# Altium footprint library Wireless_WiFi_ESP32_SMD.PcbLib: 1 footprints
Each footprint in its own frame and in the unit in brackets; x right, y up, seen from the top. Pads: shape width x height; smd on the part's side, far side on the other; paste and mask are expansions set on the pad; w line width, h text height; cw(c..) or ccw(c..) is an arc to the next point about the centre after c.
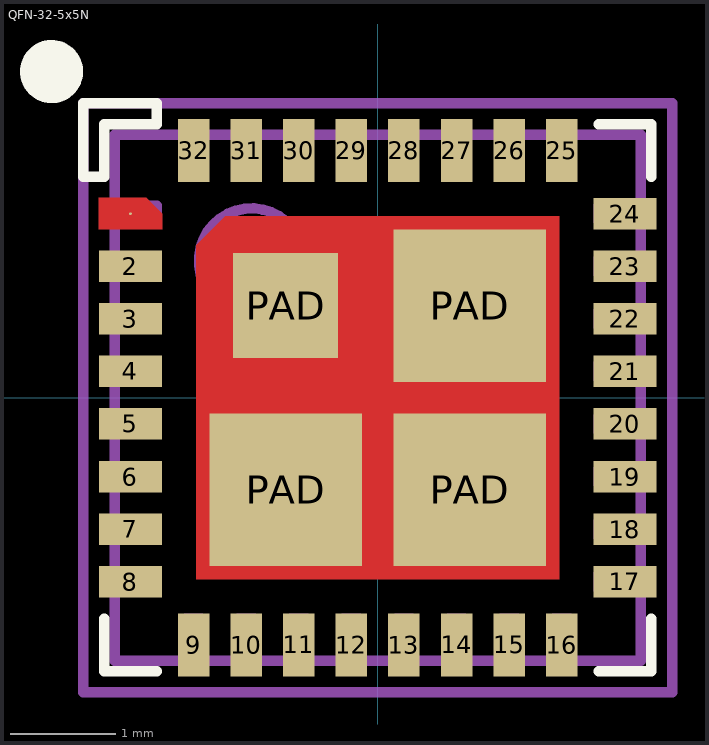
[diagram p0: the footprint, top view; thin cyan lines are the x and y axes]

## QFN-32-5x5N [mm] "UQFN, 32-Leads, Body 5x5mm, Pitch 0.5mm, IPC High Density"
height 0.85
pads (36):
  round 0.025 smd: 1(-2.35,1.75)
  rect 0.6x0.3 smd: 2(-2.35,1.25) 3(-2.35,0.75) 4(-2.35,0.25) 5(-2.35,-0.25) 6(-2.35,-0.75) 7(-2.35,-1.25) 8(-2.35,-1.75) 17(2.35,-1.75) 18(2.35,-1.25) 19(2.35,-0.75) 20(2.35,-0.25) 21(2.35,0.25) 22(2.35,0.75) 23(2.35,1.25) 24(2.35,1.75)
  rect 0.3x0.6 smd: 9(-1.75,-2.35) 10(-1.25,-2.35) 11(-0.75,-2.35) 12(-0.25,-2.35) 13(0.25,-2.35) 14(0.75,-2.35) 15(1.25,-2.35) 16(1.75,-2.35) 25(1.75,2.35) 26(1.25,2.35) 27(0.75,2.35) 28(0.25,2.35) 29(-0.25,2.35) 30(-0.75,2.35) 31(-1.25,2.35) 32(-1.75,2.35)
  rect 1.45x1.45 smd: PAD(-0.875,-0.875) PAD(0.875,-0.875) PAD(0.875,0.875)
  rect 1x1 smd: PAD(-0.875,0.875)
Top Layer:
  region: -0.15,0.15 -0.15,1.6 -1.35,1.6 -1.6,1.35 -1.6,0.15
  region: 1.725,1.725 -1.45,1.725 -1.725,1.45 -1.725,-1.725 1.725,-1.725
  region: -2.05,1.75 -2.05,1.6 -2.65,1.6 -2.65,1.9 -2.2,1.9
Top Overlay:
  circle w0.3: c-3.1,3.1 r0.15
  lines w0.1: -2.6,-2.1 -2.6,-2.6 -2.1,-2.6 ; 2.1,-2.6 2.6,-2.6 2.6,-2.1 ; 2.1,2.6 2.6,2.6 2.6,2.1 ; -2.8,2.1 -2.6,2.1 -2.6,2.6 -2.1,2.6 -2.1,2.8 -2.8,2.8 -2.8,2.1
Top Package:
  circle w0.1: c-1.2,1.3 r0.5
  lines w0.1: -2.45,-1.825 -2.1,-1.825 -2.1,-1.675 -2.45,-1.675 ; -2.45,-1.325 -2.1,-1.325 -2.1,-1.175 -2.45,-1.175 ; -2.45,-0.825 -2.1,-0.825 -2.1,-0.675 -2.45,-0.675 ; -2.45,-0.325 -2.1,-0.325 -2.1,-0.175 -2.45,-0.175 ; -2.45,0.175 -2.1,0.175 -2.1,0.325 -2.45,0.325 ; -2.45,0.675 -2.1,0.675 -2.1,0.825 -2.45,0.825 ; -2.45,1.175 -2.1,1.175 -2.1,1.325 -2.45,1.325 ; -2.45,1.675 -2.1,1.675 -2.1,1.825 -2.45,1.825 ; -1.825,-2.45 -1.825,-2.1 -1.675,-2.1 -1.675,-2.45 ; -1.825,2.45 -1.825,2.1 -1.675,2.1 -1.675,2.45 ; -1.325,-2.45 -1.325,-2.1 -1.175,-2.1 -1.175,-2.45 ; -1.325,2.45 -1.325,2.1 -1.175,2.1 -1.175,2.45 ; -0.825,-2.45 -0.825,-2.1 -0.675,-2.1 -0.675,-2.45 ; -0.825,2.45 -0.825,2.1 -0.675,2.1 -0.675,2.45 ; -0.325,-2.45 -0.325,-2.1 -0.175,-2.1 -0.175,-2.45 ; -0.325,2.45 -0.325,2.1 -0.175,2.1 -0.175,2.45 ; 0.175,-2.45 0.175,-2.1 0.325,-2.1 0.325,-2.45 ; 0.175,2.45 0.175,2.1 0.325,2.1 0.325,2.45 ; 0.675,-2.45 0.675,-2.1 0.825,-2.1 0.825,-2.45 ; 0.675,2.45 0.675,2.1 0.825,2.1 0.825,2.45 ; 1.175,-2.45 1.175,-2.1 1.325,-2.1 1.325,-2.45 ; 1.175,2.45 1.175,2.1 1.325,2.1 1.325,2.45 ; 1.675,-2.45 1.675,-2.1 1.825,-2.1 1.825,-2.45 ; 1.675,2.45 1.675,2.1 1.825,2.1 1.825,2.45 ; 2.45,-1.825 2.1,-1.825 2.1,-1.675 2.45,-1.675 ; 2.45,-1.325 2.1,-1.325 2.1,-1.175 2.45,-1.175 ; 2.45,-0.825 2.1,-0.825 2.1,-0.675 2.45,-0.675 ; 2.45,-0.325 2.1,-0.325 2.1,-0.175 2.45,-0.175 ; 2.45,0.175 2.1,0.175 2.1,0.325 2.45,0.325 ; 2.45,0.675 2.1,0.675 2.1,0.825 2.45,0.825 ; 2.45,1.175 2.1,1.175 2.1,1.325 2.45,1.325 ; 2.45,1.675 2.1,1.675 2.1,1.825 2.45,1.825 ; -2.5,-2.5 2.5,-2.5 2.5,2.5 -2.5,2.5 -2.5,-2.5
Top Comment:
  text ".Comment" at -2.128,-0.474 h1.5
Top Designator:
  text ".Designator" at -3.438,-0.451 h2
Top Border:
  lines w0.1: -0.5,0 0.5,0 ; 0,-0.5 0,0.5 ; -2.8,-2.8 2.8,-2.8 2.8,2.8 -2.8,2.8 -2.8,-2.8
3D body "UQFN-32(5x5).step": height 0.9, standoff 0, extent -2.505,-2.505 2.505,2.505